# Altium integrated library FEEL2122.IntLib: 13 symbols
Pins are listed as number, name and electrical type; pins without a type are passive.

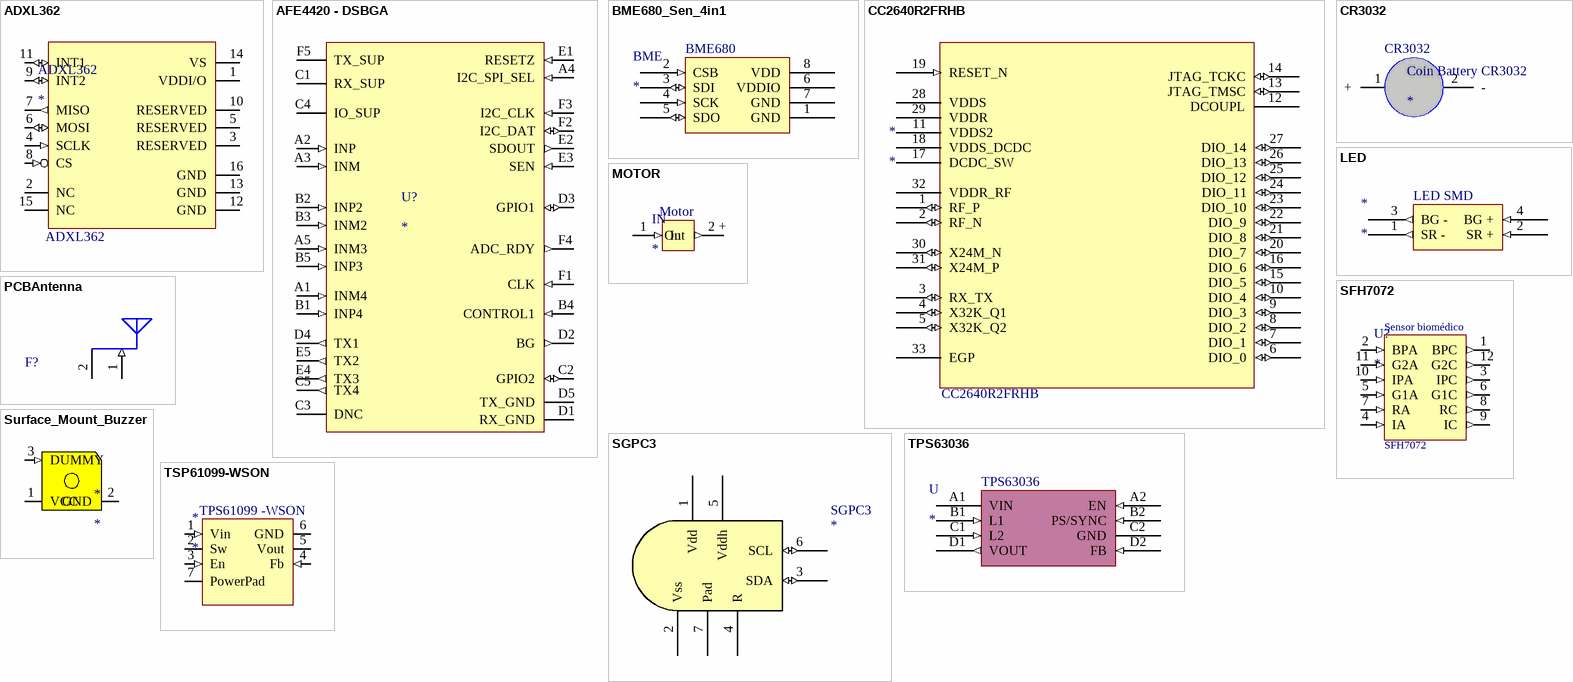
[diagram p0: symbols ADXL362 to TSP61099-WSON]

## ADXL362
designator ADXL362
footprint ADXL362 - duplicate
pins: 1 VDDI/O (power), 2 NC, 3 RESERVED, 4 SCLK (in), 5 RESERVED, 6 MOSI (io), 7 MISO (out), 8 CS (in), 9 INT2 (io), 10 RESERVED, 11 INT1 (io), 12 GND (power), 13 GND (power), 14 VS (power), 15 NC, 16 GND (power)

## AFE4420 - DSBGA
designator U?
footprint AFE4420 - DSBGA
pins: A1 INM4 (in), A2 INP (in), A3 INM (in), A4 I2C_SPI_SEL (in), A5 INM3 (in), B1 INP4 (in), B2 INP2 (in), B3 INM2 (in), B4 CONTROL1 (in), B5 INP3 (in), C1 RX_SUP (power), C2 GPIO2 (io), C3 DNC, C4 IO_SUP (power), C5 TX4 (out), D1 RX_GND (power), D2 BG (out), D3 GPIO1 (io), D4 TX1 (out), D5 TX_GND (power), E1 RESETZ (in), E2 SDOUT (out), E3 SEN (in), E4 TX3 (out), E5 TX2 (out), F1 CLK (in), F2 I2C_DAT (io), F3 I2C_CLK (in), F4 ADC_RDY (out), F5 TX_SUP (power)

## BME680_Sen_4in1
designator BME
footprint BME_LGA8 (LGA, 8-Leads, Body 3,00x3,00mmx0,93mm, Pitch 0,80mm)
pins: 1 GND (power), 2 CSB (in), 3 SDI (io), 4 SCK (in), 5 SDO (io), 6 VDDIO (power), 7 GND (power), 8 VDD (power)
text: BME680

## CC2640R2FRHB
designator *
footprint DEOP2021-Calle-Payno
pins: 1 RF_P (io), 2 RF_N (io), 3 RX_TX (io), 4 X32K_Q1 (io), 5 X32K_Q2 (io), 6 DIO_0 (io), 7 DIO_1 (io), 8 DIO_2 (io), 9 DIO_3 (io), 10 DIO_4 (io), 11 VDDS2 (power), 12 DCOUPL (power), 13 JTAG_TMSC (io), 14 JTAG_TCKC (io), 15 DIO_5 (io), 16 DIO_6 (io), 17 DCDC_SW (power), 18 VDDS_DCDC (power), 19 RESET_N (in), 20 DIO_7 (io), 21 DIO_8 (io), 22 DIO_9 (io), 23 DIO_10 (io), 24 DIO_11 (io), 25 DIO_12 (io), 26 DIO_13 (io), 27 DIO_14 (io), 28 VDDS (power), 29 VDDR (power), 30 X24M_N (io), 31 X24M_P (io), 32 VDDR_RF (power), 33 EGP (power)

## CR3032
designator Coin Battery CR3032
footprint CR3032
pins: 1 +, 2 -

## LED
designator *
footprint LED_SMD
pins: 1 SR - (out), 2 SR + (in), 3 BG - (out), 4 BG + (in)
text: LED SMD

## MOTOR
designator IN
footprint Motor
pins: 1 In (in), 2 + Out (out)
text: Motor

## PCBAntenna
designator F?, comment -  (value not drawn)  (net tie, no BOM)
GND pin has a via to a GND plane that is not included in the footprint, but has to be included in the final PCB layout design.
footprint PCBAntenna
pins: 1 FeedPoint (in), 2 GND (power)

## SFH7072
designator U?
Sensor biométrico
footprint SFH7072
pins: 1 BPC (out), 2 BPA (in), 3 IPC (out), 4 IA (in), 5 G1A (in), 6 G1C (out), 7 RA (in), 8 RC (out), 9 IC (out), 10 IPA (in), 11 G2A (in), 12 G2C (out)
text: Sensor biomédico

## SGPC3
designator SGPC3
Indoor Air Quality Sensor for TVOC Measurements
footprint DFN 6-pin (Used for SGPC3 sensor)
pins: 1 Vdd (power) "Supply voltage", 2 Vss (power) "Ground", 3 SDA (io) "Serial data, bidirectional", 4 R "Conect to ground", 5 Vddh (power) "Supply voltage, hotplate", 6 SCL (io) "Serial clock, bidirectional", 7 Pad "Heat exchanging pad. Conect to ground"

## Surface_Mount_Buzzer
designator *
footprint buzzer
pins: 1 VCC (power), 2 GND (power), 3 DUMMY (in)

## TPS63036
designator U
Non-inverting buck-boost / converter able to provide a regulated output voltage / from an input supply that can be higher or lower than / the output voltage
footprint tps63036
pins: A1 VIN (power) "Supply voltage for power stage", A2 EN (in) "Enable input (1 enabled, 0 disabled)", B1 L1 (in) "Connection for inductor", B2 PS/SYNC (in) "Enable/disable power-save mode (1 disabled, 0 enabled, clock signal for synchronization)", C1 L2 (in) "Connection for inductor", C2 GND (power) "Control/Logic ground", D1 VOUT (out) "Buck-boost converter output", D2 FB (in) "Voltage feedback pin"

## TSP61099-WSON
designator *
footprint SOP6
pins: 1 Vin (in), 2 Sw (power), 3 En (in), 4 Fb (in), 5 Vout (power), 6 GND (power), 7 PowerPad (power)
text: TPS61099 -WSON